# Altium schematic symbol library Samsung.SchLib: 5 symbols
Pins are listed as number, name and electrical type; pins without a type are passive.

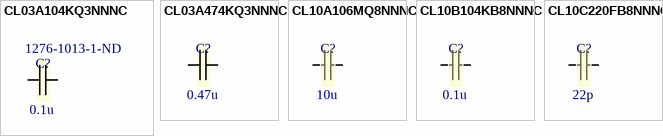
[diagram p0: symbols CL03A104KQ3NNNC to CL10C220FB8NNNC]

## CL03A104KQ3NNNC
designator C?, comment value 0.1u  Supplier Part Number 1: 1276-1013-1-ND  (hidden comment: 0.1µF ±10% 6.3V Ceramic Capacitor X5R 0201 (0603 Metric))
CAP CER 0.1UF 6.3V X5R 0201; MPN: CL03A104KQ3NNNC; Supplier 1: Digi-Key
footprint CAPC0603X03N (Chip Capacitor, 2-Leads, Body 0.60x0.30mm, IPC Medium Density)
pins: 1, 2

## CL03A474KQ3NNNC
designator C?, comment value 0.47u  (hidden comment: 0.47µF ±10% 6.3V Ceramic Capacitor X5R 0201 (0603 Metric))
CAP CER 0.47UF 6.3V X5R 0201; MPN: CL10A106MQ8NNNC; Supplier 1: Digi-Key; Supplier Part Number 1: 1276-1337-1-ND
footprint CAPC0603X03N (Chip Capacitor, 2-Leads, Body 0.60x0.30mm, IPC Medium Density)
pins: 1, 2

## CL10A106MQ8NNNC
designator C?, comment value 10u  (hidden comment: 10µF ±20% 6.3V Ceramic Capacitor X5R 0603 (1608 Metric))
CAP CER 10UF 6.3V X5R 0603; MPN: CL10A106MQ8NNNC; Supplier 1: Digi-Key; Supplier Part Number 1: 1276-1119-1-ND
footprint CAPC1608X08N (Chip Capacitor, 2-Leads, Body 1.60x0.80mm, IPC Medium Density)
pins: 1, 2

## CL10B104KB8NNNC
designator C?, comment value 0.1u  (hidden comment: 0.1µF ±10% 50V Ceramic Capacitor X7R 0603 (1608 Metric))
CAP CER 0.1UF 50V X7R 0603; MPN: CL10B104KB8NNNC; Supplier 1: Digi-Key; Supplier Part Number 1: 1276-1000-1-ND
footprint CAPC1608X08N (Chip Capacitor, 2-Leads, Body 1.60x0.80mm, IPC Medium Density)
pins: 1, 2

## CL10C220FB8NNNC
designator C?, comment value 22p  (hidden comment: 22pF ±1% 50V Ceramic Capacitor C0G, NP0 0603 (1608 Metric))
CAP CER 22PF 50V C0G/NP0 0603; MPN: CL10C220FB8NNNC; Supplier 1: Digi-Key; Supplier Part Number 1: 1276-2223-1-ND
footprint CAPC1608X08N (Chip Capacitor, 2-Leads, Body 1.60x0.80mm, IPC Medium Density)
pins: 1, 2